# Altium footprint library Connector.PcbLib: 1 footprints
Each footprint in its own frame and in the unit in brackets; x right, y up, seen from the top. Pads: shape width x height; smd on the part's side, far side on the other; paste and mask are expansions set on the pad; w line width, h text height; cw(c..) or ccw(c..) is an arc to the next point about the centre after c.
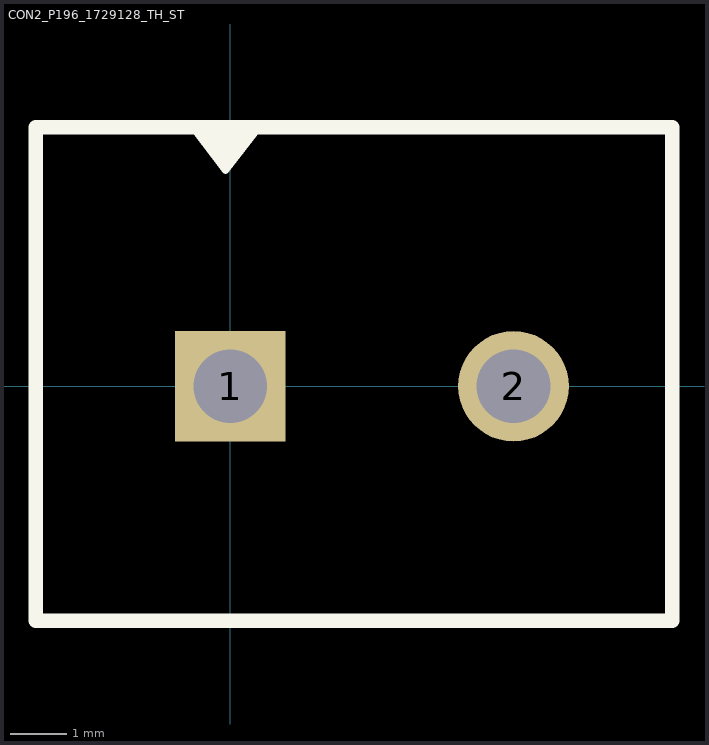
[diagram p0: the footprint, top view; thin cyan lines are the x and y axes]

## CON2_P196_1729128_TH_ST [mm] "Terminal Block"
height 10
pads (2):
  rect 1.95x1.95 / inner round 1.95 / far side rect 1.95x1.95 hole 1.3: 1(0,0)
  round 1.95 hole 1.3: 2(5,0)
Top Overlay:
  region: -0.584,4.521 0.381,4.521 0.381,4.318 -0.076,3.861
  lines w0.127: -0.635,4.547 -0.082,3.81 0.5,4.558
  lines w0.254: -3.429,-4.14 -3.429,0.227 -3.429,4.572 7.8,4.572 7.8,-4.14 0.178,-4.14 -3.429,-4.14
3D body "1729018.stp": height 10.51, standoff -2.99, extent -3.126,-3.832 7.444,4.318